# Altium schematic symbol library CH374T.SchLib: 1 symbol
Pins are listed as number, name and electrical type; pins without a type are passive.

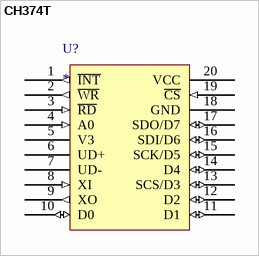
[diagram p0: symbol CH374T]

## CH374T
designator U?
pins: 1 ~{INT} (out), 2 ~{WR} (out), 3 ~{RD} (in), 4 A0 (in), 5 V3 (power), 6 UD+, 7 UD-, 8 XI (in), 9 XO (out), 10 D0 (io), 11 D1 (io), 12 D2 (io), 13 SCS/D3 (io), 14 D4 (io), 15 SCK/D5 (io), 16 SDI/D6 (io), 17 SDO/D7 (io), 18 GND (power), 19 ~{CS} (in), 20 VCC (power)